# EAGLE library part MGA-82563-BLKG (library Avago_By_element14_Batch_1)
3 V, 17 dBm Amplifier
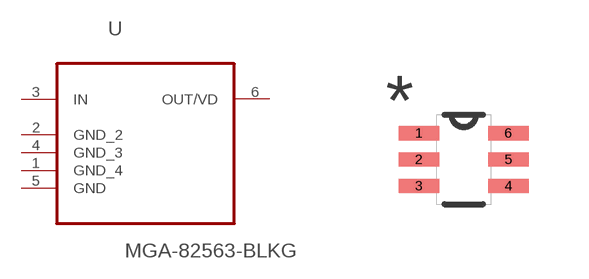
[diagram p27: symbol with the pads of SOT65P210X110-6N; footprint SOT65P210X110-6N]

Designator prefix U

## MGA-82563-BLKG (DESCRIPTION: 3 V, 17 dBm Amplifier; MPN: MGA-82563-BLKG; OC_FARNELL: 1085617; OC_NEWARK: 64J0362; PACKAGE: SC-70-6; SUPPLIER: Avago Technologies)  [SOT65P210X110-6N]
1  GND_4  pas
2  GND_2  pas
3  IN  in
4  GND_3  pas
5  GND  pas
6  OUT/VD  pas

## Footprint SOT65P210X110-6N (pad centres in mm)
smd 1.016 x 0.356: 1 -1.118,0.66; 2 -1.118,0; 3 -1.118,-0.66; 4 1.118,-0.66; 5 1.118,0; 6 1.118,0.66